# EAGLE library part 68801011722 (library WR-WTB)
WR-WTB 2.50 mm “J” Type Male Horizontal Shrouded Header Material Properties Insulator Material PA66 Insulator Flammability Rating UL94 V-0 Color White Contact Material Brass Contact Plating Tin Contact Type Stamped Certification UL Approval E323964 General Information Operating Temperature -25 °C up to +85 °C Compliance RoHS IR 3 A Working Voltage 250 V (AC) Withstanding Voltage 800 V (AC) Contact Resistance 20 mΩ RISO 1000 MΩ Pitch 2.5 mm Gender Male Type Horizontal Packaging Properties Packaging Bag <https://www.we-online.com/components/media/o33377v209%20Multi-WR-WTB250-6880xx11722.jpg> Details see: www.we-online.com/en/components/products/WTB_2_50_J_TYPE_HORIZONTAL_MALE_SHROUDED_HEADER_6880XX11722 <www.we-online.com/catalog/WTB_2_50_J_TYPE_HORIZONTAL_MALE_SHROUDED_HEADER_6880XX11722/?utm_source=eagle_model&utm_medium=description_link&utm_campaign=eisos_eagle> Updated by Ella 2025-03-06 2025 (C) Würth Elektronik
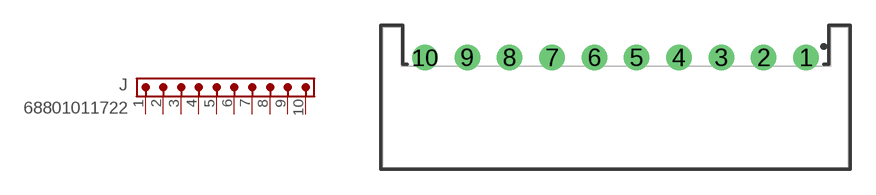
[diagram p40: symbol with the pads of 68801011722; footprint 68801011722]

Designator prefix J

## 68801011722 (CONTACT-RESISTANCE: 20mOhm; DATASHEET-URL: https://www.we-online.com/redexpert/spec/68801011722?ae; GENDER: Male; IR: 3A; L: 27.5mm; MOUNT: THT; PACKAGING: Bag; PART-NUMBER: 68801011722; PCB-CABLE-PANEL: PCB; PINS: 10; PITCH: 2.5mm; TYPE: Horizontal; VALUE: 68801011722; WORKING-VOLTAGE: 250V(AC))  [68801011722]
1  1  pas
2  2  pas
3  3  pas
4  4  pas
5  5  pas
6  6  pas
7  7  pas
8  8  pas
9  9  pas
10  10  pas

## Footprint 68801011722 (pad centres in mm)
WR-WTB 2.50 mm “J” Type Male Horizontal Shrouded Header,10 Pins
drill 1: 1 11.25,2.35; 2 8.75,2.35; 3 6.25,2.35; 4 3.75,2.35; 5 1.25,2.35; 6 -1.25,2.35; 7 -3.75,2.35; 8 -6.25,2.35; 9 -8.75,2.35; 10 -11.25,2.35